# Altium footprint library CAPC160X80X95L35N.PcbLib: 1 footprints
Each footprint in its own frame and in the unit in brackets; x right, y up, seen from the top. Pads: shape width x height; smd on the part's side, far side on the other; paste and mask are expansions set on the pad; w line width, h text height; cw(c..) or ccw(c..) is an arc to the next point about the centre after c.
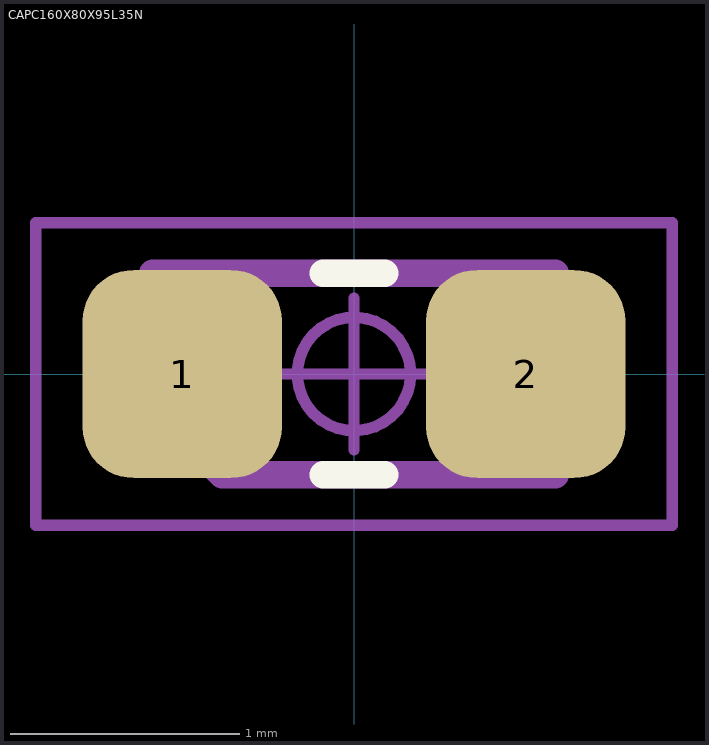
[diagram p0: the footprint, top view; thin cyan lines are the x and y axes]

## CAPC160X80X95L35N [mm] "Capacitor, Chip; 1.60 mm L X 0.80 mm W X 0.95 mm H body"
height 0.95
pads (2):
  rrect51% 0.87x0.91 smd: 1(-0.75,0) 2(0.75,0)
Top Overlay:
  lines w0.12: -0.135,-0.44 0.135,-0.44 ; -0.135,0.44 0.135,0.44
Mechanical 3:
  lines w0.12: -0.88,-0.136 -0.576,-0.44 0.88,-0.44 0.88,0.44 -0.88,0.44 -0.88,-0.136
Mechanical 5:
  lines w0.025: -0.8,-0.4 -0.45,-0.4 -0.45,0.4 -0.8,0.4 ; -0.8,-0.4 -0.8,0.4 ; -0.8,-0.4 -0.8,0.4 ; -0.8,-0.4 0.8,-0.4 ; -0.8,0.4 0.8,0.4 ; 0.8,-0.4 0.8,0.4 ; 0.8,-0.4 0.45,-0.4 0.45,0.4 0.8,0.4 ; 0.8,-0.4 0.8,0.4
Mechanical 7:
  circle w0.05: c0,0 r0.248
  lines w0.05: -0.33,0 0.33,0 ; 0,-0.33 0,0.33 ; -1.39,-0.66 -1.39,0.66 1.39,0.66 1.39,-0.66 -1.39,-0.66
Mechanical 9:
  text "'.Designator'" at -5.334,-0.127 h1
3D body "CAPC160X80X95L35.STEP": height 0.95, standoff 0, extent -0.8,-0.4 0.8,0.4
3D body: height 1.04, standoff 0, extent -1.39,-0.66 1.39,0.66